# Altium schematic symbol library Custom1.SchLib: 476 symbols (part 10 of 16)
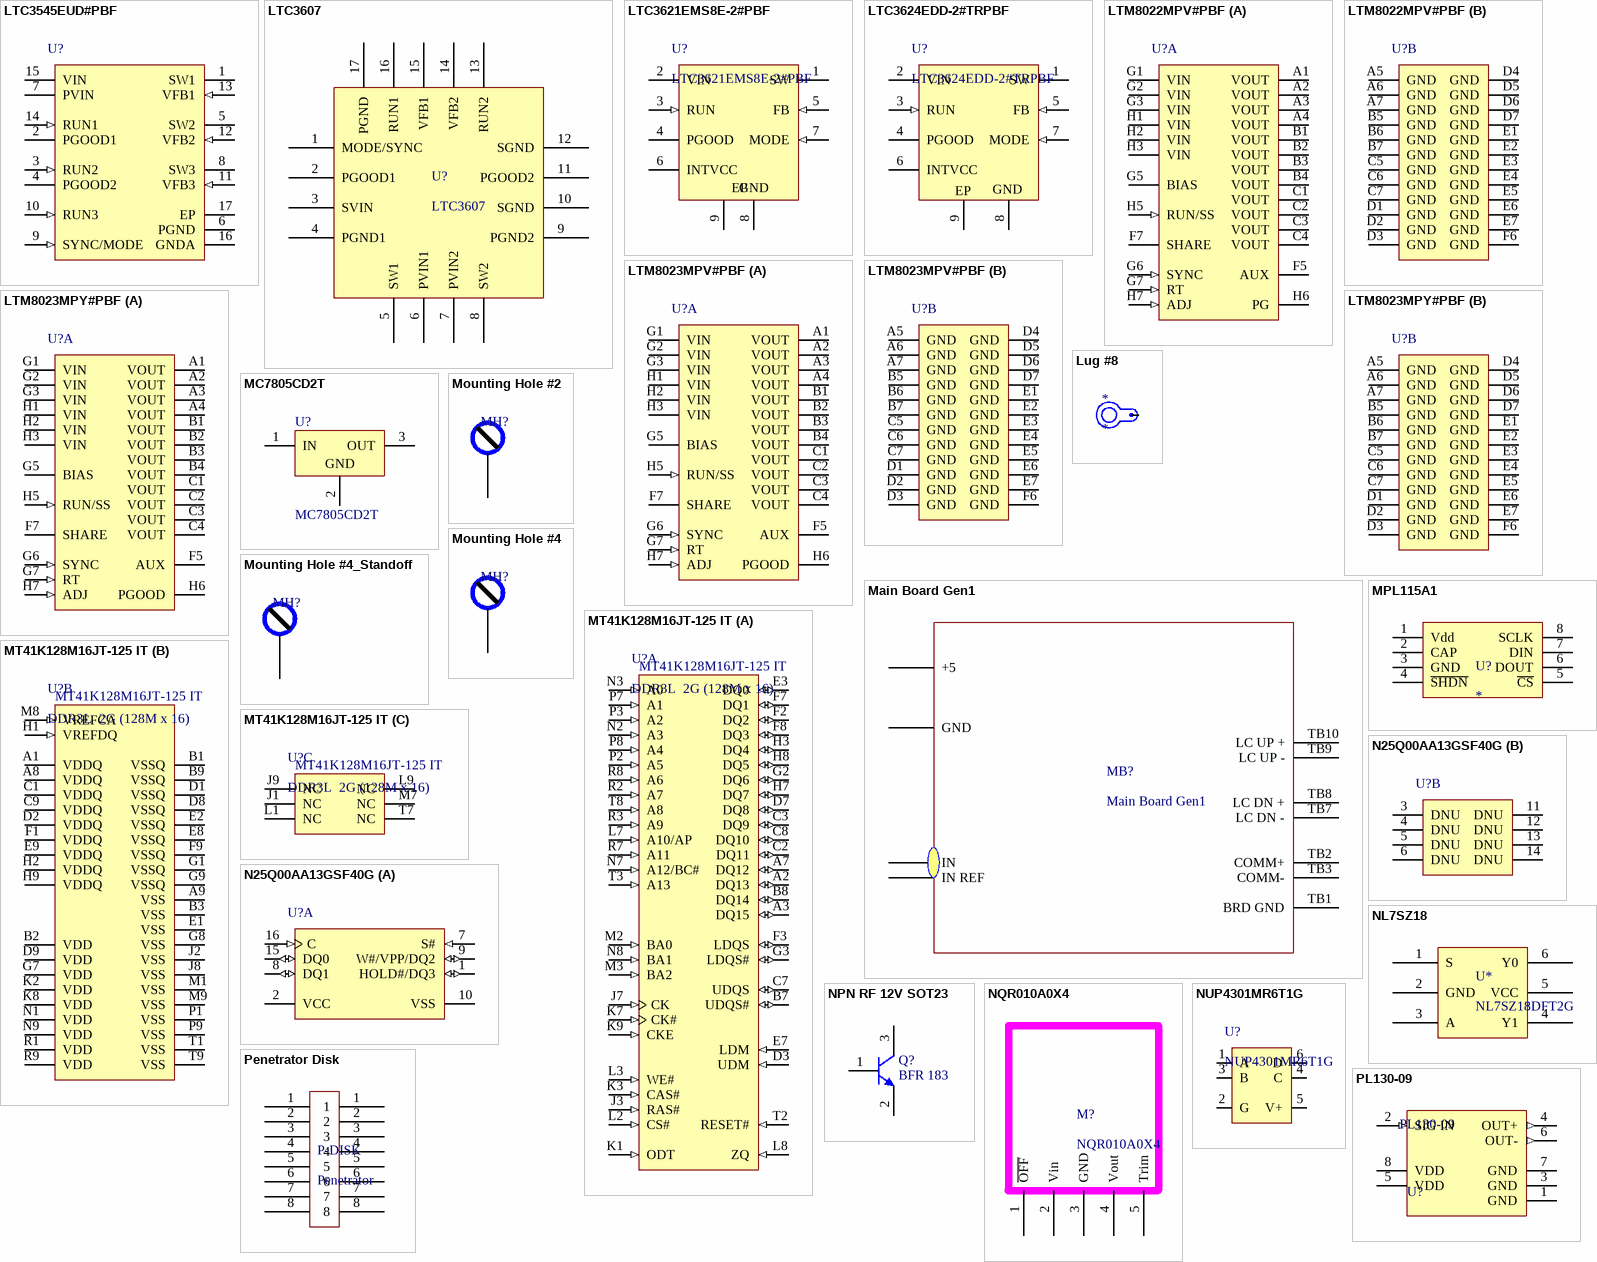
[diagram p34: symbols LTC3545EUD#PBF to PL130-09]

## LTM8023MPV#PBF
designator U?
2 A, 36 V DC/DC Step-Down uModule Regulator, 50-pin LGA, -55 to 125 degC, Pb-Free, Tray; Manufacturer: Linear Technology; PartNumber: LTM8023MPV#PBF; Extended Temp: E, MP; Frequency Adjust Range: 200kHz - 2.4MHz; Frequency Sync Range: 250kHz - 2MHz; Frequency(kHz): 2400; Ishutdown(uA): 0.1; Isupply(mA): 0.085; Number of Outputs: 1; Output Current(A): 2; Switch Current(A): 2.7; Synchronous: no; Topology: Buck; Vin Max(V): 36; Vin Min(V): 3.6; Vout Max(V): 10; Vout Min(V): 0.8; DatasheetVersion: Rev. G; PackageVersion: Rev. C, 02/2013; PackageReference: LGA-50; PackageDescription: 50-Pin LGA, Body 11.25 x 9 mm, Pitch 1.27 mm; Supplier 1: Digi-Key; Supplier Part Number 1: LTM8023MPV#PBF-ND; Supplier 2: Farnell; Supplier Part Number 2: 1799827; Supplier 3: Newark; Supplier Part Number 3: 19P9346; Packing: Tray; RoHS: TRUE; Tracking: no; Mounting Technology: Surface Mount; Code_JEDEC: MO-222; ComponentLink1Description: Manufacturer URL; ComponentLink1URL: http://www.linear.com/; ComponentLink2Description: Datasheet; ComponentLink2URL: http://cds.linear.com/docs/en/datasheet/8023fg.pdf; ComponentLink3Description: Package Specification; ComponentLink3URL: http://cds.linear.com/docs/en/packaging/05081804_C_lga50.pdf
footprint LT-LGA-50-05-08-1804_V (LGA, 50-Leads, Body 11.25x9mm, Pitch 1.27mm)
part A pins: A1 VOUT (power) "Power Output Pins. Apply the output filter capacitor and the output load between these pins and GND pins.", A2 VOUT (power) "Power Output Pins. Apply the output filter capacitor and the output load between these pins and GND pins.", A3 VOUT (power) "Power Output Pins. Apply the output filter capacitor and the output load between these pins and GND pins.", A4 VOUT (power) "Power Output Pins. Apply the output filter capacitor and the output load between these pins and GND pins.", B1 VOUT (power) "Power Output Pins. Apply the output filter capacitor and the output load between these pins and GND pins.", B2 VOUT (power) "Power Output Pins. Apply the output filter capacitor and the output load between these pins and GND pins.", B3 VOUT (power) "Power Output Pins. Apply the output filter capacitor and the output load between these pins and GND pins.", B4 VOUT (power) "Power Output Pins. Apply the output filter capacitor and the output load between these pins and GND pins.", C1 VOUT (power) "Power Output Pins. Apply the output filter capacitor and the output load between these pins and GND pins.", C2 VOUT (power) "Power Output Pins. Apply the output filter capacitor and the output load between these pins and GND pins.", C3 VOUT (power) "Power Output Pins. Apply the output filter capacitor and the output load between these pins and GND pins.", C4 VOUT (power) "Power Output Pins. Apply the output filter capacitor and the output load between these pins and GND pins.", F5 AUX (power) "Low Current Voltage Source for BIAS. The VAUX pin is internally connected to VOUT and is placed adjacent to the BIAS pin to ease printed circuit board routing. Although this pin is internally connected to VOUT, do NOT (See Datasheet)", F7 SHARE "Tie this to the SHARE pin of another LTM8023 when paralleling the outputs. Otherwise, do not connect (leave floating).", G1 VIN (power) "The VIN pin supplies current to the LTM8023’s internal regulator and to the internal power switch. This pin must be locally bypassed with an external, low ESR capacitor of at least 2.2uF.", G2 VIN (power) "The VIN pin supplies current to the LTM8023’s internal regulator and to the internal power switch. This pin must be locally bypassed with an external, low ESR capacitor of at least 2.2uF.", G3 VIN (power) "The VIN pin supplies current to the LTM8023’s internal regulator and to the internal power switch. This pin must be locally bypassed with an external, low ESR capacitor of at least 2.2uF.", G5 BIAS (power) "The BIAS pin connects to the internal power bus. Connect to a power source greater than 2.8V. If the output is greater than 2.8V, connect this pin there. If the output voltage is less, connect this to a voltage source (See Datasheet)", G6 SYNC (in) "This is the external clock synchronization input. Ground this pin for low ripple Burst Mode(R) operation at low output loads.", G7 RT (in) "The RT pin is used to program the switching frequency of the LTM8023 by connecting a resistor from this pin to ground.", H1 VIN (power) "The VIN pin supplies current to the LTM8023’s internal regulator and to the internal power switch. This pin must be locally bypassed with an external, low ESR capacitor of at least 2.2uF.", H2 VIN (power) "The VIN pin supplies current to the LTM8023’s internal regulator and to the internal power switch. This pin must be locally bypassed with an external, low ESR capacitor of at least 2.2uF.", H3 VIN (power) "The VIN pin supplies current to the LTM8023’s internal regulator and to the internal power switch. This pin must be locally bypassed with an external, low ESR capacitor of at least 2.2uF.", H5 RUN/SS (in) "Tie RUN/SS pin to ground to shut down the LTM8023. Tie to 2.5V or more for normal operation. If the shutdown feature is not used, tie this pin to the VIN pin. RUN/SS also provides a soft-start function; see the Applications (See Datasheet)", H6 PGOOD (oc) "The PGOOD pin is the open-collector output of an internal comparator. PG remains low until the ADJ pin is within 10% of the fi nal regulation voltage. PG output is valid when VIN is above 3.6V and RUN/SS is high. If this (See Datasheet)", H7 ADJ (in) "The LTM8023 regulates its ADJ pin to 0.79V. Connect the adjust resistor from this pin to ground."
part B pins: A5 GND (power) "Tie these GND pins to a local ground plane below the LTM8023 and the circuit components", A6 GND (power) "Tie these GND pins to a local ground plane below the LTM8023 and the circuit components", A7 GND (power) "Tie these GND pins to a local ground plane below the LTM8023 and the circuit components", B5 GND (power) "Tie these GND pins to a local ground plane below the LTM8023 and the circuit components", B6 GND (power) "Tie these GND pins to a local ground plane below the LTM8023 and the circuit components", B7 GND (power) "Tie these GND pins to a local ground plane below the LTM8023 and the circuit components", C5 GND (power) "Tie these GND pins to a local ground plane below the LTM8023 and the circuit components", C6 GND (power) "Tie these GND pins to a local ground plane below the LTM8023 and the circuit components", C7 GND (power) "Tie these GND pins to a local ground plane below the LTM8023 and the circuit components", D1 GND (power) "Tie these GND pins to a local ground plane below the LTM8023 and the circuit components", D2 GND (power) "Tie these GND pins to a local ground plane below the LTM8023 and the circuit components", D3 GND (power) "Tie these GND pins to a local ground plane below the LTM8023 and the circuit components", D4 GND (power) "Tie these GND pins to a local ground plane below the LTM8023 and the circuit components", D5 GND (power) "Tie these GND pins to a local ground plane below the LTM8023 and the circuit components", D6 GND (power) "Tie these GND pins to a local ground plane below the LTM8023 and the circuit components", D7 GND (power) "Tie these GND pins to a local ground plane below the LTM8023 and the circuit components", E1 GND (power) "Tie these GND pins to a local ground plane below the LTM8023 and the circuit components", E2 GND (power) "Tie these GND pins to a local ground plane below the LTM8023 and the circuit components", E3 GND (power) "Tie these GND pins to a local ground plane below the LTM8023 and the circuit components", E4 GND (power) "Tie these GND pins to a local ground plane below the LTM8023 and the circuit components", E5 GND (power) "Tie these GND pins to a local ground plane below the LTM8023 and the circuit components", E6 GND (power) "Tie these GND pins to a local ground plane below the LTM8023 and the circuit components", E7 GND (power) "Tie these GND pins to a local ground plane below the LTM8023 and the circuit components", F6 GND (power) "Tie these GND pins to a local ground plane below the LTM8023 and the circuit components"

## LTM8023MPY#PBF
designator U?
2 A, 36 V DC/DC Step-Down uModule Regulator, 50-pin BGA, -55 to 125 degC, Pb-Free, Tray; Manufacturer: Linear Technology; PartNumber: LTM8023MPY#PBF; Extended Temp: E, MP; Frequency Adjust Range: 200kHz - 2.4MHz; Frequency Sync Range: 250kHz - 2MHz; Frequency(kHz): 2400; Ishutdown(uA): 0.1; Isupply(mA): 0.085; Number of Outputs: 1; Output Current(A): 2; Switch Current(A): 2.7; Synchronous: no; Topology: Buck; Vin Max(V): 36; Vin Min(V): 3.6; Vout Max(V): 10; Vout Min(V): 0.8; DatasheetVersion: Rev. G; PackageVersion: Rev. A, 01/2013; PackageReference: BGA-50; PackageDescription: 50-Ball BGA, Body 11.25 x 9 mm, Pitch 1.27 mm; Supplier 1: Digi-Key; Supplier Part Number 1: LTM8023MPY#PBF-ND; Supplier 2: Farnell; Supplier Part Number 2: 2068083; Supplier 3: Newark; Supplier Part Number 3: 78T3668; Packing: Tray; RoHS: TRUE; Tracking: no; Mounting Technology: Surface Mount; Code_JEDEC: MS-028; ComponentLink1Description: Manufacturer URL; ComponentLink1URL: http://www.linear.com/; ComponentLink2Description: Datasheet; ComponentLink2URL: http://cds.linear.com/docs/en/datasheet/8023fg.pdf; ComponentLink3Description: Package Specification; ComponentLink3URL: http://cds.linear.com/docs/en/packaging/05081883_A_bga50.pdf
footprint LT-BGA-50-11250X9000X3420 (BGA, 50-Balls, Body 11.25x9mm, Pitch 1.27mm)
part A pins: A1 VOUT (power) "Power Output Pins. Apply the output filter capacitor and the output load between these pins and GND pins.", A2 VOUT (power) "Power Output Pins. Apply the output filter capacitor and the output load between these pins and GND pins.", A3 VOUT (power) "Power Output Pins. Apply the output filter capacitor and the output load between these pins and GND pins.", A4 VOUT (power) "Power Output Pins. Apply the output filter capacitor and the output load between these pins and GND pins.", B1 VOUT (power) "Power Output Pins. Apply the output filter capacitor and the output load between these pins and GND pins.", B2 VOUT (power) "Power Output Pins. Apply the output filter capacitor and the output load between these pins and GND pins.", B3 VOUT (power) "Power Output Pins. Apply the output filter capacitor and the output load between these pins and GND pins.", B4 VOUT (power) "Power Output Pins. Apply the output filter capacitor and the output load between these pins and GND pins.", C1 VOUT (power) "Power Output Pins. Apply the output filter capacitor and the output load between these pins and GND pins.", C2 VOUT (power) "Power Output Pins. Apply the output filter capacitor and the output load between these pins and GND pins.", C3 VOUT (power) "Power Output Pins. Apply the output filter capacitor and the output load between these pins and GND pins.", C4 VOUT (power) "Power Output Pins. Apply the output filter capacitor and the output load between these pins and GND pins.", F5 AUX (power) "Low Current Voltage Source for BIAS. The VAUX pin is internally connected to VOUT and is placed adjacent to the BIAS pin to ease printed circuit board routing. Although this pin is internally connected to VOUT, do NOT (See Datasheet)", F7 SHARE "Tie this to the SHARE pin of another LTM8023 when paralleling the outputs. Otherwise, do not connect (leave floating).", G1 VIN (power) "The VIN pin supplies current to the LTM8023’s internal regulator and to the internal power switch. This pin must be locally bypassed with an external, low ESR capacitor of at least 2.2uF.", G2 VIN (power) "The VIN pin supplies current to the LTM8023’s internal regulator and to the internal power switch. This pin must be locally bypassed with an external, low ESR capacitor of at least 2.2uF.", G3 VIN (power) "The VIN pin supplies current to the LTM8023’s internal regulator and to the internal power switch. This pin must be locally bypassed with an external, low ESR capacitor of at least 2.2uF.", G5 BIAS (power) "The BIAS pin connects to the internal power bus. Connect to a power source greater than 2.8V. If the output is greater than 2.8V, connect this pin there. If the output voltage is less, connect this to a voltage source (See Datasheet)", G6 SYNC (in) "This is the external clock synchronization input. Ground this pin for low ripple Burst Mode operation at low output loads.", G7 RT (in) "The RT pin is used to program the switching frequency of the LTM8023 by connecting a resistor from this pin to ground.", H1 VIN (power) "The VIN pin supplies current to the LTM8023’s internal regulator and to the internal power switch. This pin must be locally bypassed with an external, low ESR capacitor of at least 2.2uF.", H2 VIN (power) "The VIN pin supplies current to the LTM8023’s internal regulator and to the internal power switch. This pin must be locally bypassed with an external, low ESR capacitor of at least 2.2uF.", H3 VIN (power) "The VIN pin supplies current to the LTM8023’s internal regulator and to the internal power switch. This pin must be locally bypassed with an external, low ESR capacitor of at least 2.2uF.", H5 RUN/SS (in) "Tie RUN/SS pin to ground to shut down the LTM8023. Tie to 2.5V or more for normal operation. If the shutdown feature is not used, tie this pin to the VIN pin. RUN/SS also provides a soft-start function; see the Applications (See Datasheet)", H6 PGOOD (oc) "The PGOOD pin is the open-collector output of an internal comparator. PG remains low until the ADJ pin is within 10% of the fi nal regulation voltage. PG output is valid when VIN is above 3.6V and RUN/SS is high. If this (See Datasheet)", H7 ADJ (in) "The LTM8023 regulates its ADJ pin to 0.79V. Connect the adjust resistor from this pin to ground."
part B pins: A5 GND (power) "Tie these GND pins to a local ground plane below the LTM8023 and the circuit components", A6 GND (power) "Tie these GND pins to a local ground plane below the LTM8023 and the circuit components", A7 GND (power) "Tie these GND pins to a local ground plane below the LTM8023 and the circuit components", B5 GND (power) "Tie these GND pins to a local ground plane below the LTM8023 and the circuit components", B6 GND (power) "Tie these GND pins to a local ground plane below the LTM8023 and the circuit components", B7 GND (power) "Tie these GND pins to a local ground plane below the LTM8023 and the circuit components", C5 GND (power) "Tie these GND pins to a local ground plane below the LTM8023 and the circuit components", C6 GND (power) "Tie these GND pins to a local ground plane below the LTM8023 and the circuit components", C7 GND (power) "Tie these GND pins to a local ground plane below the LTM8023 and the circuit components", D1 GND (power) "Tie these GND pins to a local ground plane below the LTM8023 and the circuit components", D2 GND (power) "Tie these GND pins to a local ground plane below the LTM8023 and the circuit components", D3 GND (power) "Tie these GND pins to a local ground plane below the LTM8023 and the circuit components", D4 GND (power) "Tie these GND pins to a local ground plane below the LTM8023 and the circuit components", D5 GND (power) "Tie these GND pins to a local ground plane below the LTM8023 and the circuit components", D6 GND (power) "Tie these GND pins to a local ground plane below the LTM8023 and the circuit components", D7 GND (power) "Tie these GND pins to a local ground plane below the LTM8023 and the circuit components", E1 GND (power) "Tie these GND pins to a local ground plane below the LTM8023 and the circuit components", E2 GND (power) "Tie these GND pins to a local ground plane below the LTM8023 and the circuit components", E3 GND (power) "Tie these GND pins to a local ground plane below the LTM8023 and the circuit components", E4 GND (power) "Tie these GND pins to a local ground plane below the LTM8023 and the circuit components", E5 GND (power) "Tie these GND pins to a local ground plane below the LTM8023 and the circuit components", E6 GND (power) "Tie these GND pins to a local ground plane below the LTM8023 and the circuit components", E7 GND (power) "Tie these GND pins to a local ground plane below the LTM8023 and the circuit components", F6 GND (power) "Tie these GND pins to a local ground plane below the LTM8023 and the circuit components"

## Lug #8
designator *
pins: 1

## Main Board Gen1
designator MB?
ComponentLink1URL: https://drive.google.com/file/d/0Bxm9S-Ib8bhxU2tiSVYzTFotU1E/view?usp=sharing; ComponentLink1Description: Schematic Gen1 Mainboard
pins: ?1 IN, ?2 IN REF, ?3 +5, ?4 GND, TB1 BRD GND, TB2 COMM+, TB3 COMM-, TB7 LC DN -, TB8 LC DN +, TB9 LC UP -, TB10 LC UP +

## MC7805CD2T
designator U?
Three-Terminal Positive Voltage Regulator; Manufacturer: ON Semiconductor; Manufacturer Part Number: MC7805BD2TR4G; Note: Pin 2 is electrically connected to Pin 4; Pin 2 is trimmed and not drawn;; Regulator Topology: Positive Fixed; Voltage - Output: 5V; Current - Output: 1A; Voltage - Dropout (Typical): 2V @ 1A; Number of Regulators: 1; Voltage - Input: Up to 35V; Published: 15-Apr-2002; DatasheetVersion: 1997; PackageVersion: 1997; PackageReference: 936-03; Publisher: Altium Limited; PackageDescription: D2-PAK/TO-263-AB; 3 Leads (1 Cropped); Body 14.7 (inc. leads) x 10.2 mm (LxW max); ComponentLink1Description: Manufacturer Link; ComponentLink1URL: http://www.onsemi.com/site/products/taxonomy/0,4438,503,00.html; ComponentLink2Description: Datasheet; ComponentLink2URL: http://www.onsemi.com/pub/Collateral/MC7800-D.PDF; Supplier 1: Digi-Key; RoHS: RoHS Compliant; Category: Integrated Circuits (ICs); Stock 1: 60250; Pricing 1: 1=0.95, 10=0.83, 25=0.7336, 100=0.6394, 250=0.5566 (USD); Packaging: Cut Tape (CT); Current - Limit (Min): -; Operating Temperature: -40°C ~ 125°C; Mounting Type: Surface Mount; Package / Case: TO-263-3, D²Pak (2 Leads + Tab), TO-263AB; Supplier Device Package: D2PAK; ComponentLink3URL: http://www.onsemi.com/pub_link/Collateral/MC7800-D.PDF; ComponentLink3Description: http://www.onsemi.com/pub_link/Collateral/MC7800-D.PDF; Supplier Part Number 1: MC7805BD2TR4GOSCT-ND
footprint TO-263-2 (SOT23, 5-Leads, Body 2.9x1.6mm, Pitch 0.95mm, IPC Medium Density)
pins: 1 IN (power), 2 GND (power), 3 OUT (power)

## Mounting Hole #2
designator MH?, comment Mounting Hole  (value not drawn)  (no BOM)
footprint Mounting Pad #2 - Nut Clearance
pins: 0

## Mounting Hole #4
designator MH?, comment Mounting Hole  (value not drawn)  (no BOM)
footprint Mounting Pad #4
pins: 0

## Mounting Hole #4_Standoff
designator MH?, comment Mounting Hole  (value not drawn)  (no BOM)
footprint Mounting Pad #4 - Standoff
pins: 0

## MPL115A1
designator U?
Barometer; Manufacturer: Freescale Semiconductor; Manufacturer Part Number: MPL115A1; Pressure Type: Absolute; Operating Pressure: 7.2 PSI ~ 16.6 PSI, 50 ~ 115 kPa; Output: SPI; Accuracy: ±1kPa; Voltage - Supply: 2.375 V ~ 5.5 V; Supplier 1: Digi-Key; Supplier Part Number 1: MPL115A1-ND; RoHS: RoHS Compliant; Category: Sensors, Transducers; Stock: 902; Pricing: 1=4.76, 10=4.25, 25=3.8252, 100=3.485 (USD); Port Size: -; Termination Style: PCB; Operating Temperature: -40°C ~ 105°C; Package / Case: 8-TLGA; Factory Setting: -; ComponentLink1URL: http://www.freescale.com/files/sensors/doc/data_sheet/MPL115A1.pdf; ComponentLink1Description: http://www.freescale.com/files/sensors/doc/data_sheet/MPL115A1.pdf
footprint Baro-SPI
pins: 1 Vdd, 2 CAP, 3 GND, 4 ~{SHDN}, 5 ~{CS}, 6 DOUT, 7 DIN, 8 SCLK

## MT41K128M16JT-125 IT
designator U?, comment DDR3L  2G (128M x 16)  PartNumber: MT41K128M16JT-125 IT
2Gb DDR3-1600 SDRAM, 128Mb x 16, 1.25ns, 1.35V, -40 to 95 degC, 96-Ball FBGA, Pb-Free; Manufacturer: Micron; Manufacturer Part Number: MT41K128M16JT-125 AIT:K; CL: CL = 11; Clock Rate: 800 MHz; Op. Temp.: -40C to +95C; Format - Memory: RAM; Memory Type: DDR3L SDRAM; Interface: Parallel; ID: 14762670; DatasheetVersion: Rev.G; PackageVersion: Rev.G; PackageReference: MICT-JT-96; PackageDescription: 96-Ball Fine-Pitch Ball Grid Array, 14 x 8 mm, Pitch 0.8 mm; Cycle Time: 1.25ns; Data Rate: DDR3-1600; Density: 2Gb; Depth: 128Mb; Package: FBGA; Mounting Technology: Surface Mount; ComponentLink1Description: Manufacturer URL; ComponentLink1URL: http://www.micron.com/; ComponentLink2Description: Datasheet; ComponentLink2URL: http://www.micron.com/~/media/documents/products/data-sheet/dram/ddr3/2gb_1_35v_ddr3l.pdf; ComponentLink3Description: Package Specification; ComponentLink3URL: http://www.micron.com/~/media/Documents/Products/Data%20Sheet/DRAM/2Gb_DDR3_SDRAM.pdf; Category: Integrated Circuits (ICs); Packaging: Tray; Memory Size: 2G (128M x 16); Operating Temperature: -40°C ~ 95°C; Package / Case: 96-TFBGA; ComponentLink4URL: http://www.micron.com/~/media/documents/products/data-sheet/dram/ddr3/2gb_1_35v_ddr3l.pdf; ComponentLink4Description: http://www.micron.com/~/media/documents/products/data-sheet/dram/ddr3/2gb_1_35v_ddr3l.pdf; Supplier 1: Arrow; RoHS: : Compliant / : Compliant; Stock 1: 63; Pricing 1: 1=7.544, 10=6.651, 25=6.049, 50=5.961, 100=5.64 (USD); Package Quantity: 1; ComponentLink5URL: https://www.arrow.com/en/products/mt41k128m16jt-125aitk/micron-technology/; ComponentLink5Description: https://www.arrow.com/en/products/mt41k128m16jt-125aitk/micron-technology/; Supplier Part Number 1: MT41K128M16JT-125 AIT:K
footprint MICT-JT-96 (BGA, 96-Balls, Body 14x8mm, Pitch 0.8mm)
part A pins: A2 DQ13 (io) "Data input/output: Upper byte of bidirectional data bus for the x16 configuration. DQ[15:8] are referenced to VREFDQ.", A3 DQ15 (io) "Data input/output: Upper byte of bidirectional data bus for the x16 configuration. DQ[15:8] are referenced to VREFDQ.", A7 DQ12 (io) "Data input/output: Upper byte of bidirectional data bus for the x16 configuration. DQ[15:8] are referenced to VREFDQ.", B7 UDQS# (io) "Upper byte data strobe: Output with read data. Edge-aligned with read data. Input with write data. UDQS is center-aligned to write data.", B8 DQ14 (io) "Data input/output: Upper byte of bidirectional data bus for the x16 configuration. DQ[15:8] are referenced to VREFDQ.", C2 DQ11 (io) "Data input/output: Upper byte of bidirectional data bus for the x16 configuration. DQ[15:8] are referenced to VREFDQ.", C3 DQ9 (io) "Data input/output: Upper byte of bidirectional data bus for the x16 configuration. DQ[15:8] are referenced to VREFDQ.", C7 UDQS (io) "Upper byte data strobe: Output with read data. Edge-aligned with read data. Input with write data. UDQS is center-aligned to write data.", C8 DQ10 (io) "Data input/output: Upper byte of bidirectional data bus for the x16 configuration. DQ[15:8] are referenced to VREFDQ.", D3 UDM (in) "Input data mask: UDM is an upper-byte, input mask signal for write data. Upper-byte input data is masked when UDM is sampled HIGH along with the input data during a write access. Although the UDM ball is input-only, the UDM (See Datasheet)", D7 DQ8 (io) "Data input/output: Upper byte of bidirectional data bus for the x16 configuration. DQ[15:8] are referenced to VREFDQ.", E3 DQ0 (io) "Data input/output: Lower byte of bidirectional data bus for the x16 configuration. DQ[7:0] are referenced to VREFDQ.", E7 LDM (in) "Input data mask: LDM is a lower-byte, input mask signal for write data. Lower-byte input data is masked when LDM is sampled HIGH along with the input data during a write access. Although the LDM ball is input-only, the LDM (See Datasheet)", F2 DQ2 (io) "Data input/output: Lower byte of bidirectional data bus for the x16 configuration. DQ[7:0] are referenced to VREFDQ.", F3 LDQS (io) "Lower byte data strobe: Output with read data. Edge-aligned with read data. Input with write data. LDQS is center-aligned to write data.", F7 DQ1 (io) "Data input/output: Lower byte of bidirectional data bus for the x16 configuration. DQ[7:0] are referenced to VREFDQ.", F8 DQ3 (io) "Data input/output: Lower byte of bidirectional data bus for the x16 configuration. DQ[7:0] are referenced to VREFDQ.", G2 DQ6 (io) "Data input/output: Lower byte of bidirectional data bus for the x16 configuration. DQ[7:0] are referenced to VREFDQ.", G3 LDQS# (io) "Lower byte data strobe: Output with read data. Edge-aligned with read data. Input with write data. LDQS is center-aligned to write data.", H3 DQ4 (io) "Data input/output: Lower byte of bidirectional data bus for the x16 configuration. DQ[7:0] are referenced to VREFDQ.", H7 DQ7 (io) "Data input/output: Lower byte of bidirectional data bus for the x16 configuration. DQ[7:0] are referenced to VREFDQ.", H8 DQ5 (io) "Data input/output: Lower byte of bidirectional data bus for the x16 configuration. DQ[7:0] are referenced to VREFDQ.", J3 RAS# (in) "Command inputs: RAS#, CAS#, and WE# (along with CS#) define the command being entered and are referenced to VREFCA.", J7 CK (in) "Clock: CK and CK# are differential clock inputs. All address and control input signals are sampled on the crossing of the positive edge of CK and the negative edge of CK#. Output data strobe (DQS, DQS#) is referenced to the (See Datasheet)", K1 ODT (in) "On-die termination: ODT enables (registered HIGH) and disables (registered LOW) termination resistance internal to the DDR3 SDRAM. When enabled in normal operation,ODT is only applied to each of the following balls: (See Datasheet)", K3 CAS# (in) "Command inputs: RAS#, CAS#, and WE# (along with CS#) define the command being entered and are referenced to VREFCA.", K7 CK# (in) "Clock: CK and CK# are differential clock inputs. All address and control input signals are sampled on the crossing of the positive edge of CK and the negative edge of CK#. Output data strobe (LDQS,L DQS#,UDQS,UDQS#) is (See Datasheet)", K9 CKE (in) "Clock enable: CKE enables (registered HIGH) and disables (registered LOW) internal circuitry and clocks on the DRAM. The specific circuitry that is enabled/disabled is dependent upon the DDR3 SDRAM configuration and (See Datasheet)", L2 CS# (in) "Chip select: CS# enables (registered LOW) and disables (registered HIGH) the command decoder. All commands are masked when CS# is registered HIGH. CS# provides for external rank selection on systems with multiple ranks. CS# (See Datasheet)", L3 WE# (in) "Command inputs: RAS#, CAS#, and WE# (along with CS#) define the command being entered and are referenced to VREFCA.", L7 A10/AP (in) "Address inputs: Provide the row address for ACTIVATE commands, and the column address and auto precharge bit (A10) for READ/WRITE commands, to select one location out of the memory array in the respective bank. A10 sampled (See Datasheet)", L8 ZQ (in) "External reference ball for output drive calibration: This ball is tied to an external 240ohm resistor (RZQ), which is tied to VSSQ.", M2 BA0 (in) "Bank address inputs: BA[2:0] define the bank to which an ACTIVATE, READ, WRITE, or PRECHARGE command is being applied. BA[2:0] define which mode register (MR0, MR1, MR2, or MR3) is loaded during the LOAD MODE command. (See Datasheet)", M3 BA2 (in) "Bank address inputs: BA[2:0] define the bank to which an ACTIVATE, READ, WRITE, or PRECHARGE command is being applied. BA[2:0] define which mode register (MR0, MR1, MR2, or MR3) is loaded during the LOAD MODE command. (See Datasheet)", N2 A3 (in) "Address inputs: Provide the row address for ACTIVATE commands, and the column address and auto precharge bit (A10) for READ/WRITE commands, to select one location out of the memory array in the respective bank. A10 sampled (See Datasheet)", N3 A0 (in) "Address inputs: Provide the row address for ACTIVATE commands, and the column address and auto precharge bit (A10) for READ/WRITE commands, to select one location out of the memory array in the respective bank. A10 sampled (See Datasheet)", N7 A12/BC# (in) "Address inputs: Provide the row address for ACTIVATE commands, and the column address and auto precharge bit (A10) for READ/WRITE commands, to select one location out of the memory array in the respective bank. A10 sampled (See Datasheet)", N8 BA1 (in) "Bank address inputs: BA[2:0] define the bank to which an ACTIVATE, READ, WRITE, or PRECHARGE command is being applied. BA[2:0] define which mode register (MR0, MR1, MR2, or MR3) is loaded during the LOAD MODE command. (See Datasheet)", P2 A5 (in) "Address inputs: Provide the row address for ACTIVATE commands, and the column address and auto precharge bit (A10) for READ/WRITE commands, to select one location out of the memory array in the respective bank. A10 sampled (See Datasheet)", P3 A2 (in) "Address inputs: Provide the row address for ACTIVATE commands, and the column address and auto precharge bit (A10) for READ/WRITE commands, to select one location out of the memory array in the respective bank. A10 sampled (See Datasheet)", P7 A1 (in) "Address inputs: Provide the row address for ACTIVATE commands, and the column address and auto precharge bit (A10) for READ/WRITE commands, to select one location out of the memory array in the respective bank. A10 sampled (See Datasheet)", P8 A4 (in) "Address inputs: Provide the row address for ACTIVATE commands, and the column address and auto precharge bit (A10) for READ/WRITE commands, to select one location out of the memory array in the respective bank. A10 sampled (See Datasheet)", R2 A7 (in) "Address inputs: Provide the row address for ACTIVATE commands, and the column address and auto precharge bit (A10) for READ/WRITE commands, to select one location out of the memory array in the respective bank. A10 sampled (See Datasheet)", R3 A9 (in) "Address inputs: Provide the row address for ACTIVATE commands, and the column address and auto precharge bit (A10) for READ/WRITE commands, to select one location out of the memory array in the respective bank. A10 sampled (See Datasheet)", R7 A11 (in) "Address inputs: Provide the row address for ACTIVATE commands, and the column address and auto precharge bit (A10) for READ/WRITE commands, to select one location out of the memory array in the respective bank. A10 sampled (See Datasheet)", R8 A6 (in) "Address inputs: Provide the row address for ACTIVATE commands, and the column address and auto precharge bit (A10) for READ/WRITE commands, to select one location out of the memory array in the respective bank. A10 sampled (See Datasheet)", T2 RESET# (in) "Reset: RESET# is an active LOW CMOS input referenced to VSS. The RESET# input receiver is a CMOS input defined as a rail-to-rail signal with DC HIGH >= 0.8 x VDDQ and DC LOW =< 0.2 x VDDQ. RESET# assertion and deassertion (See Datasheet)", T3 A13 (in) "Address inputs: Provide the row address for ACTIVATE commands, and the column address and auto precharge bit (A10) for READ/WRITE commands, to select one location out of the memory array in the respective bank. A10 sampled (See Datasheet)", T8 A8 (in) "Address inputs: Provide the row address for ACTIVATE commands, and the column address and auto precharge bit (A10) for READ/WRITE commands, to select one location out of the memory array in the respective bank. A10 sampled (See Datasheet)"
part B pins: A1 VDDQ (power) "DQ power supply: 1.35V, 1.283-1.45V operational; compatible with 1.5V operation.", A8 VDDQ (power) "DQ power supply: 1.35V, 1.283-1.45V operational; compatible with 1.5V operation.", A9 VSS (power) "Ground.", B1 VSSQ (power) "DQ ground: Isolated on the device for improved noise immunity.", B2 VDD (power) "Power supply: 1.35V, 1.283-1.45V operational; compatible to 1.5V operation.", B3 VSS (power) "Ground.", B9 VSSQ (power) "DQ ground: Isolated on the device for improved noise immunity.", C1 VDDQ (power) "DQ power supply: 1.35V, 1.283-1.45V operational; compatible with 1.5V operation.", C9 VDDQ (power) "DQ power supply: 1.35V, 1.283-1.45V operational; compatible with 1.5V operation.", D1 VSSQ (power) "DQ ground: Isolated on the device for improved noise immunity.", D2 VDDQ (power) "DQ power supply: 1.35V, 1.283-1.45V operational; compatible with 1.5V operation.", D8 VSSQ (power) "DQ ground: Isolated on the device for improved noise immunity.", D9 VDD (power) "Power supply: 1.35V, 1.283-1.45V operational; compatible to 1.5V operation.", E1 VSS (power) "Ground.", E2 VSSQ (power) "DQ ground: Isolated on the device for improved noise immunity.", E8 VSSQ (power) "DQ ground: Isolated on the device for improved noise immunity.", E9 VDDQ (power) "DQ power supply: 1.35V, 1.283-1.45V operational; compatible with 1.5V operation.", F1 VDDQ (power) "DQ power supply: 1.35V, 1.283-1.45V operational; compatible with 1.5V operation.", F9 VSSQ (power) "DQ ground: Isolated on the device for improved noise immunity.", G1 VSSQ (power) "DQ ground: Isolated on the device for improved noise immunity.", G7 VDD (power) "Power supply: 1.35V, 1.283-1.45V operational; compatible to 1.5V operation.", G8 VSS (power) "Ground.", G9 VSSQ (power) "DQ ground: Isolated on the device for improved noise immunity.", H1 VREFDQ (in) "Reference voltage for data: VREFDQ must be maintained at all times (including self refresh) for proper device operation.", H2 VDDQ (power) "DQ power supply: 1.35V, 1.283-1.45V operational; compatible with 1.5V operation.", H9 VDDQ (power) "DQ power supply: 1.35V, 1.283-1.45V operational; compatible with 1.5V operation.", J2 VSS (power) "Ground.", J8 VSS (power) "Ground.", K2 VDD (power) "Power supply: 1.35V, 1.283-1.45V operational; compatible to 1.5V operation.", K8 VDD (power) "Power supply: 1.35V, 1.283-1.45V operational; compatible to 1.5V operation.", M1 VSS (power) "Ground.", M8 VREFCA (in) "Reference voltage for control, command, and address: VREFCA must be maintained at all times (including self refresh) for proper device operation.", M9 VSS (power) "Ground.", N1 VDD (power) "Power supply: 1.35V, 1.283-1.45V operational; compatible to 1.5V operation.", N9 VDD (power) "Power supply: 1.35V, 1.283-1.45V operational; compatible to 1.5V operation.", P1 VSS (power) "Ground.", P9 VSS (power) "Ground.", R1 VDD (power) "Power supply: 1.35V, 1.283-1.45V operational; compatible to 1.5V operation.", R9 VDD (power) "Power supply: 1.35V, 1.283-1.45V operational; compatible to 1.5V operation.", T1 VSS (power) "Ground.", T9 VSS (power) "Ground."
part C pins: J1 NC "No connect: These balls should be left unconnected (the ball has no connection to the DRAM or to other balls).", J9 NC "No connect: These balls should be left unconnected (the ball has no connection to the DRAM or to other balls).", L1 NC "No connect: These balls should be left unconnected (the ball has no connection to the DRAM or to other balls).", L9 NC "No connect: These balls should be left unconnected (the ball has no connection to the DRAM or to other balls).", M7 NC "No connect: These balls should be left unconnected (the ball has no connection to the DRAM or to other balls).", T7 NC "No connect: These balls should be left unconnected (the ball has no connection to the DRAM or to other balls)."

## N25Q00AA13GSF40G
designator U?
1 Gb (x1/x2/x4) Serial NOR Flash Memory with Multi I/O, 108 MHz, 2.7 to 3.6 V, 16-pin SO16 Wide (SF), Tube; Part Family: N25Q; Manufacturer: Micron; PartNumber: N25Q00AA13GSF40G; Density: 1Gb; Speed: 108 MHz; Voltage: 2.7V-3.6V; Memory Type: FLASH - NOR; Memory Size: 1G (256M x 4); Interface: SPI Serial; Voltage - Supply: 2.7 V ~ 3.6 V; DatasheetVersion: Rev. F; PackageVersion: Rev. F; PackageReference: MICT-SF-16; PackageDescription: 16-Pin SO Wide, 7.5 X 10.3 mm, Pitch 1.27 mm; Applications: Embedded; Package: SO16 Wide; Part Status: Production; RoHS: Yes; Type: Multi I/O; Width: x1/x2/x4; Mounting Technology: Surface Mount; ComponentLink1Description: Manufacturer URL; ComponentLink1URL: http://www.micron.com/; ComponentLink2Description: Datasheet; ComponentLink2URL: http://www.micron.com/parts/nor-flash/serial-nor-flash/n25q00aa13gsf40g; ComponentLink3Description: Package Specification; ComponentLink3URL: http://www.micron.com/~/media/Documents/Products/Data%20Sheet/NOR%20Flash/Serial%20NOR/N25Q/n25q_1gb_3v_65nm.pdf; Supplier 1: Digi-Key; Manufacturer Part Number: N25Q00AA13GSF40G; Category: Integrated Circuits (ICs); Stock 1: 4449; Pricing 1: 1=9.47, 25=8.572, 50=8.525, 100=7.5051, 250=7.13372, 500=7.0605, 1000=6.82515, 2500=6.54273, 5000=6.276 (USD); Packaging: Tube; Format - Memory: FLASH; Operating Temperature: -40°C ~ 85°C; Package / Case: 16-SOIC (0.295", 7.50mm Width); Supplier Device Package: 16-SOP; Supplier Part Number 1: 557-1571-5-ND
footprint MICT-SF-16_N (SOIC, 16-Leads, Body 10.3x7.5mm, Pitch 1.27mm, IPC Medium Density)
part A pins: 1 HOLD#/DQ3 (io) "HOLD: Pauses any serial communications with the device without deselecting the device. DQ1 (output) is High-Z. DQ0 (input) and the clock are "Don't Care." To enable HOLD, the device must be selected with S# driven LOW.HOLD# (See Datasheet)", 2 VCC (power) "Device core power supply: Source voltage.", 7 S# (in) "Chip select: When S# is HIGH, the device is deselected and DQ1 is at High-Z. When in extended SPI mode, with the device deselected, DQ1 is tri-stated. Unless an internal PROGRAM,ERASE, or WRITE STATUS REGISTER cycle is in (See Datasheet)", 8 DQ1 (io) "Serial data:Transfers data serially out of the device. Data is shifted out on the falling edge of the clock. DQ1 is used for input/output during the following operations: DUAL INPUT FAST PROGRAM, QUAD INPUT FAST PROGRAM, (See Datasheet)", 9 W#/VPP/DQ2 (io) "Write protect: W# can be used as a protection control input or in QIO-SPI operations. When in extended SPI with single or dual commands, the WRITE PROTECT function is selectable by the voltage range applied to the signal. If (See Datasheet)", 10 VSS (power) "Ground: Reference for the VCC supply voltage.", 15 DQ0 (io) "Serial data: Transfers data serially into the device. It receives command codes, addresses, and the data to be programmed. Values are latched on the rising edge of the clock. DQ0 is used for input/output during the following (See Datasheet)", 16 C (in) "Clock: Provides the timing of the serial interface. Commands, addresses, or data present at serial data inputs are latched on the rising edge of the clock. Data is shifted out on the falling edge of the clock."
part B pins: 3 DNU "Do not use.", 4 DNU "Do not use.", 5 DNU "Do not use.", 6 DNU "Do not use.", 11 DNU "Do not use.", 12 DNU "Do not use.", 13 DNU "Do not use.", 14 DNU "Do not use."

## NL7SZ18
designator U*, comment NL7SZ18DFT2G
IC DEMUX 1:2 NONINV 3ST SC88; Manufacturer: ON Semiconductor; Number of Inputs: 1; Number of Outputs: 2; Propagation Delay: 12.5ns; Max Supply Voltage: 5.5V; Min Supply Voltage: 1.65V; Logic Function: Demultiplexer; High Level Output Current: -32mA; Low Level Output Current: 32mA; Polarity: Non-Inverting; Quiescent Current: 1uA; Supply Type: Single; Throw Configuration: DPST; Supplier 1: Digi-Key; Manufacturer Part Number: NL7SZ18DFT2G; Stock 1: 3167; Pricing 1: 1=0.45000, 10=0.34000, 100=0.21170, 500=0.14488, 1000=0.11144 (USD); RoHS: Yes; Mount: Surface Mount; Case/Package: SC; Number of Pins: 88; Contact Plating: Tin; Min Operating Temperature: -40°C; Max Operating Temperature: 125°C; Packaging: Tape and Reel; Number of Elements: 1; Package Quantity: 3000; Turn-On Delay Time: 12.5ns; Number of Circuits: 1; Independent Circuits: 1; Length: 2.2mm; Height: 1mm; Width: 1.35mm; Lead Free: Lead Free; Halogen Free: Halogen Free; ComponentLink1URL: https://datasheet.ciiva.com/8252/nl7sz18-d-8252040.pdf?src-supplier=Avnet; ComponentLink1Description: https://datasheet.ciiva.com/8252/nl7sz18-d-8252040.pdf?src-supplier=Avnet; ComponentLink2URL: https://datasheet.ciiva.com/4807/nl7sz18-d-67200-4807456.pdf?src-supplier=Mouser; ComponentLink2Description: https://datasheet.ciiva.com/4807/nl7sz18-d-67200-4807456.pdf?src-supplier=Mouser; ComponentLink3URL: https://datasheet.ciiva.com/1891/nl7sz18-d-1891705.pdf?src-supplier=Digi-Key; ComponentLink3Description: https://datasheet.ciiva.com/1891/nl7sz18-d-1891705.pdf?src-supplier=Digi-Key; Supplier Part Number 1: NL7SZ18DFT2GOSCT-ND
footprint DCK6_N_rev1 (SOT23, 6-Leads, Body 2x1.3mm, Pitch 0.65mm, Lead Span 2.1mm, IPC Medium Density)
pins: 1 S, 2 GND, 3 A, 4 Y1, 5 VCC, 6 Y0

## NPN RF 12V SOT23
designator Q?, comment BFR 183
NPN RF 12V SOT23; Manufacturer: Infineon; Manufacturer Part Number: BFR183E6327HTSA1; Frequency: 8GHz; Max Power Dissipation: 450mW; Collector Base Voltage (VCBO): 20V; Emitter Base Voltage (VEBO): 2V; Max Collector Current: 65mA; Number of Elements: 1; ComponentLink1URL: http://www.infineon.com/dgdl/bfr183.pdf?folderId=db3a30431400ef68011425b1354605c1&fileId=db3a30431400ef68011426a1b8f80656; ComponentLink1Description: http://www.infineon.com/dgdl/bfr183.pdf?folderId=db3a30431400ef68011425b1354605c1&fileId=db3a30431400ef68011426a1b8f80656; Supplier 1: Digi-Key; Stock 1: 11734; Pricing 1: 1 = 0.40000, 10 = 0.30500, 100 = 0.18980, 500 = 0.12990, 1000 = 0.09992 (USD); RoHS: Yes; Mount: Surface Mount; Case/Package: SOT; Number of Pins: 3; Contact Plating: Tin; Min Operating Temperature: -65°C; Max Operating Temperature: 150°C; Packaging: Tape and Reel; Polarity: NPN; Power Dissipation: 450mW; Collector Emitter Voltage (VCEO): 12V; Collector Emitter Breakdown Voltage: 12V; Transition Frequency: 8GHz; Radiation Hardening: No; Lead Free: Lead Free; REACH SVHC: No SVHC; Halogen Free: Not Halogen Free; ComponentLink2URL: https://datasheet.ciiva.com/26938/getdatasheetpartid-731494-26938705.pdf?src-supplier=Verical; ComponentLink2Description: https://datasheet.ciiva.com/26938/getdatasheetpartid-731494-26938705.pdf?src-supplier=Verical; ComponentLink3URL: https://datasheet.ciiva.com/11208/infineon-bfr183-ds-v01-01-en-11208157.pdf?src-supplier=Avnet; ComponentLink3Description: https://datasheet.ciiva.com/11208/infineon-bfr183-ds-v01-01-en-11208157.pdf?src-supplier=Avnet; Supplier Part Number 1: BFR183E6327HTSA1CT-ND
footprint TO-92A (TO, Flat Index; 3 In-Line, Axial Leads; Body Dia. 4.5mm; Leads 0.51 x 0.48 mm (max))
simulation model 2N3904 (NPN)
signal-integrity model 2N3904
footprint SOT-23 (SOT23, 3-Leads, Body 2.9x1.3mm, Pitch 0.95mm, 0.7 x 0.9)
pins: 1 B, 2 E, 3 C

## NQR010A0X4
designator M?
Manufacturer: GE; Manufacturer Part Number: NQR010A0X4Z; Output Current: 10A; Output Voltage: 6V; Number of Outputs: 1; Efficiency: 94%; Min Input Voltage: 4.5V; Max Input Voltage: 14V; Nominal Input Voltage: 12V; Isolation: Non-Isolated; Max Power Dissipation: 60W; Supplier 1: Digi-Key; Stock 1: 1096; Pricing 1: 1=8.27, 5=8.154, 10=8.036, 25=7.7992, 50=7.5628, 100=7.3265, 250=7.0902, 500=6.6175 (USD); Mount: Through Hole; Case/Package: SIP; Number of Pins: 5; Weight: 0.088185oz; Min Operating Temperature: -40°C; Max Operating Temperature: 85°C; Package Quantity: 315; Packaging: Tray; Voltage - Output 1: 6V; Current - Output 1: 10A; Max Output Current: 10A; Features: UVLO,OCP,OTP; Length: 10.4mm; Height: 0.65inch; Width: 0.33inch; Depth: 8.43mm; Radiation Hardening: No; ComponentLink1URL: https://datasheet.ciiva.com/16982/0900766b80eec532-16982919.pdf; ComponentLink1Description: https://datasheet.ciiva.com/16982/0900766b80eec532-16982919.pdf; ComponentLink2URL: https://datasheet.ciiva.com/15112/getdatasheetpartid-253308-15112201.pdf; ComponentLink2Description: https://datasheet.ciiva.com/15112/getdatasheetpartid-253308-15112201.pdf; ComponentLink3URL: https://datasheet.ciiva.com/2168/nqr010a0x-2168860.pdf; ComponentLink3Description: https://datasheet.ciiva.com/2168/nqr010a0x-2168860.pdf; ComponentLink4URL: https://datasheet.ciiva.com/11838/0900766b80eec532-11838174.pdf; ComponentLink4Description: https://datasheet.ciiva.com/11838/0900766b80eec532-11838174.pdf; Supplier Part Number 1: 555-1161-ND
pins: 1 ~{OFF}, 2 Vin, 3 GND, 4 Vout, 5 Trim

## NUP4301MR6T1G
designator U?
Low Capacitance Diode Array for ESD Protection in Four Data Lines, 6-Pin SC-74, Pb-Free, Tape and Reel; Manufacturer: ON Semiconductor; Capacitance: 3pF; Direction: Bidirectional; Number of Bidirectional Channels: 4; Min Breakdown Voltage: 70V; Power Line Protection: No; Leakage Current: 2.5uA; Forward Current: 715mA; Max Surge Current: 2A; Power Rating: 500W; ComponentLink1Description: Manufacturer URL; ComponentLink2Description: Datasheet; ComponentLink3URL: http://www.onsemi.com/pub_link/Collateral/318F-05.PDF; ComponentLink3Description: Package Specification; ComponentLink1URL: http://www.onsemi.com/; ComponentLink2URL: http://www.onsemi.com/pub/Collateral/NUP4301MR6T1-D.PDF; ComponentLink4URL: https://datasheet.ciiva.com/353/nup4301mr6t1-d-353859.pdf?src-supplier=Avnet; ComponentLink4Description: https://datasheet.ciiva.com/353/nup4301mr6t1-d-353859.pdf?src-supplier=Avnet; ComponentLink5URL: https://datasheet.ciiva.com/353/nup4301mr6t1-d-353859.pdf?src-supplier=Digi-Key; ComponentLink5Description: https://datasheet.ciiva.com/353/nup4301mr6t1-d-353859.pdf?src-supplier=Digi-Key; ComponentLink6URL: https://datasheet.ciiva.com/22637/1708333-22637204.pdf?src-supplier=Element14; ComponentLink6Description: https://datasheet.ciiva.com/22637/1708333-22637204.pdf?src-supplier=Element14; ComponentLink7URL: https://datasheet.ciiva.com/29695/1185422-29695844.pdf?src-supplier=Jameco; ComponentLink7Description: https://datasheet.ciiva.com/29695/1185422-29695844.pdf?src-supplier=Jameco; ComponentLink8URL: https://datasheet.ciiva.com/17030/0900766b80dad825-17030492.pdf?src-supplier=Allied+Electronics; ComponentLink8Description: https://datasheet.ciiva.com/17030/0900766b80dad825-17030492.pdf?src-supplier=Allied+Electronics; ComponentLink9URL: https://datasheet.ciiva.com/26787/nup4301mr6t1g-26787833.pdf?src-supplier=IIIC; ComponentLink9Description: https://datasheet.ciiva.com/26787/nup4301mr6t1g-26787833.pdf?src-supplier=IIIC; ComponentLink10URL: https://datasheet.ciiva.com/353/nup4301mr6t1-d-353860.pdf?src-supplier=Digi-Key; ComponentLink10Description: https://datasheet.ciiva.com/353/nup4301mr6t1-d-353860.pdf?src-supplier=Digi-Key; ComponentLink11URL: https://datasheet.ciiva.com/353/nup4301mr6t1-d-353861.pdf?src-supplier=Digi-Key; ComponentLink11Description: https://datasheet.ciiva.com/353/nup4301mr6t1-d-353861.pdf?src-supplier=Digi-Key; ComponentLink12URL: https://datasheet.ciiva.com/8292/nup4301mr6t1-d-8292389.pdf?src-supplier=Avnet; ComponentLink12Description: https://datasheet.ciiva.com/8292/nup4301mr6t1-d-8292389.pdf?src-supplier=Avnet; ComponentLink13URL: https://datasheet.ciiva.com/15144/getdatasheetpartid-82731-15144533.pdf?src-supplier=Verical; ComponentLink13Description: https://datasheet.ciiva.com/15144/getdatasheetpartid-82731-15144533.pdf?src-supplier=Verical; ComponentLink14URL: https://datasheet.ciiva.com/7973/1916454-7973847.pdf?src-supplier=Element14; ComponentLink14Description: https://datasheet.ciiva.com/7973/1916454-7973847.pdf?src-supplier=Element14; ComponentLink15URL: https://datasheet.ciiva.com/16396/nup4301mr6t1-d-16396122.pdf?src-supplier=Future+Electronics; ComponentLink15Description: https://datasheet.ciiva.com/16396/nup4301mr6t1-d-16396122.pdf?src-supplier=Future+Electronics; Supplier 1: Digi-Key; Manufacturer Part Number: NUP4301MR6T1G; Stock 1: 26876; Pricing 1: 1 = 0.50000, 10 = 0.37400, 100 = 0.23310, 500 = 0.15952, 1000 = 0.12271 (USD); RoHS: Yes; Case/Package: SC; Number of Pins: 6; Contact Plating: Tin; Min Operating Temperature: -40°C; Max Operating Temperature: 85°C; Package Quantity: 1; Packaging: Tape and Reel; Working Voltage: 70V; Number of Lines: 4; Peak Reverse Current: 2.5uA; Number of Channels: 4; Polarity: Bidirectional; Reverse Standoff Voltage: 70V; Max Breakdown Voltage: 70V; Max Repetitive Reverse Voltage (Vrrm): 70V; Peak Non-Repetitive Surge Current: 2A; Voltage Rating (DC): 70V; Breakdown Voltage: 70V; Reverse Voltage: 70V; Length: 3mm; Height: 0.94mm; Depth: 1.5mm; Width: 1.5mm; Radiation Hardening: No; Lead Free: Lead Free; Halogen Free: Halogen Free; REACH SVHC: No SVHC; Supplier Part Number 1: NUP4301MR6T1GOSCT-ND
footprint ONSC-SC-74-6-318F-05_V
pins: 1 A, 2 G (power), 3 B, 4 C, 5 V+ (power), 6 D

## Penetrator Disk
designator P-DISK, comment Penetrator
pins: 1, 1, 2, 2, 3, 3 10, 4, 4, 5, 5, 6, 6, 7, 7, 8, 8

## PL130-09
designator U?
High Speed Translator Differential Driver,; Manufacturer: Microchip Technology; Manufacturer Part Number: PL130-09SI; Number of Circuits: 1; Ratio - Input:Output: 1:1; Differential - Input:Output: No/Yes; Input: CMOS, LVDS, PECL, Sine Wave, TTL; Output: LVDS; Frequency - Max: 1MHz; Voltage - Supply: 2.25 V ~ 3.63 V; Supplier 1: Digi-Key; RoHS: RoHS Compliant; Category: Integrated Circuits (ICs); Stock 1: 0; Pricing 1: 200=3.69 (USD); Packaging: Tube; Type: Buffer/Driver; Operating Temperature: -40°C ~ 85°C; Mounting Type: Surface Mount; Package / Case: 8-SOIC (0.154", 3.90mm Width); Supplier Device Package: 8-SOP; ComponentLink1URL: http://www.micrel.com/_PDF/clk/PL130-09.pdf; ComponentLink1Description: http://www.micrel.com/_PDF/clk/PL130-09.pdf; Supplier Part Number 1: PL130-09SI-ND
footprint LT-S8-8_N (SOIC, 8-Leads, Body 4.9x3.9mm, Pitch 1.27mm, IPC Medium Density)
pins: 1 GND (power), 2 SIG IN (in), 3 GND (power), 4 OUT+ (out), 5 VDD (power), 6 OUT- (out), 7 GND (power), 8 VDD (power)

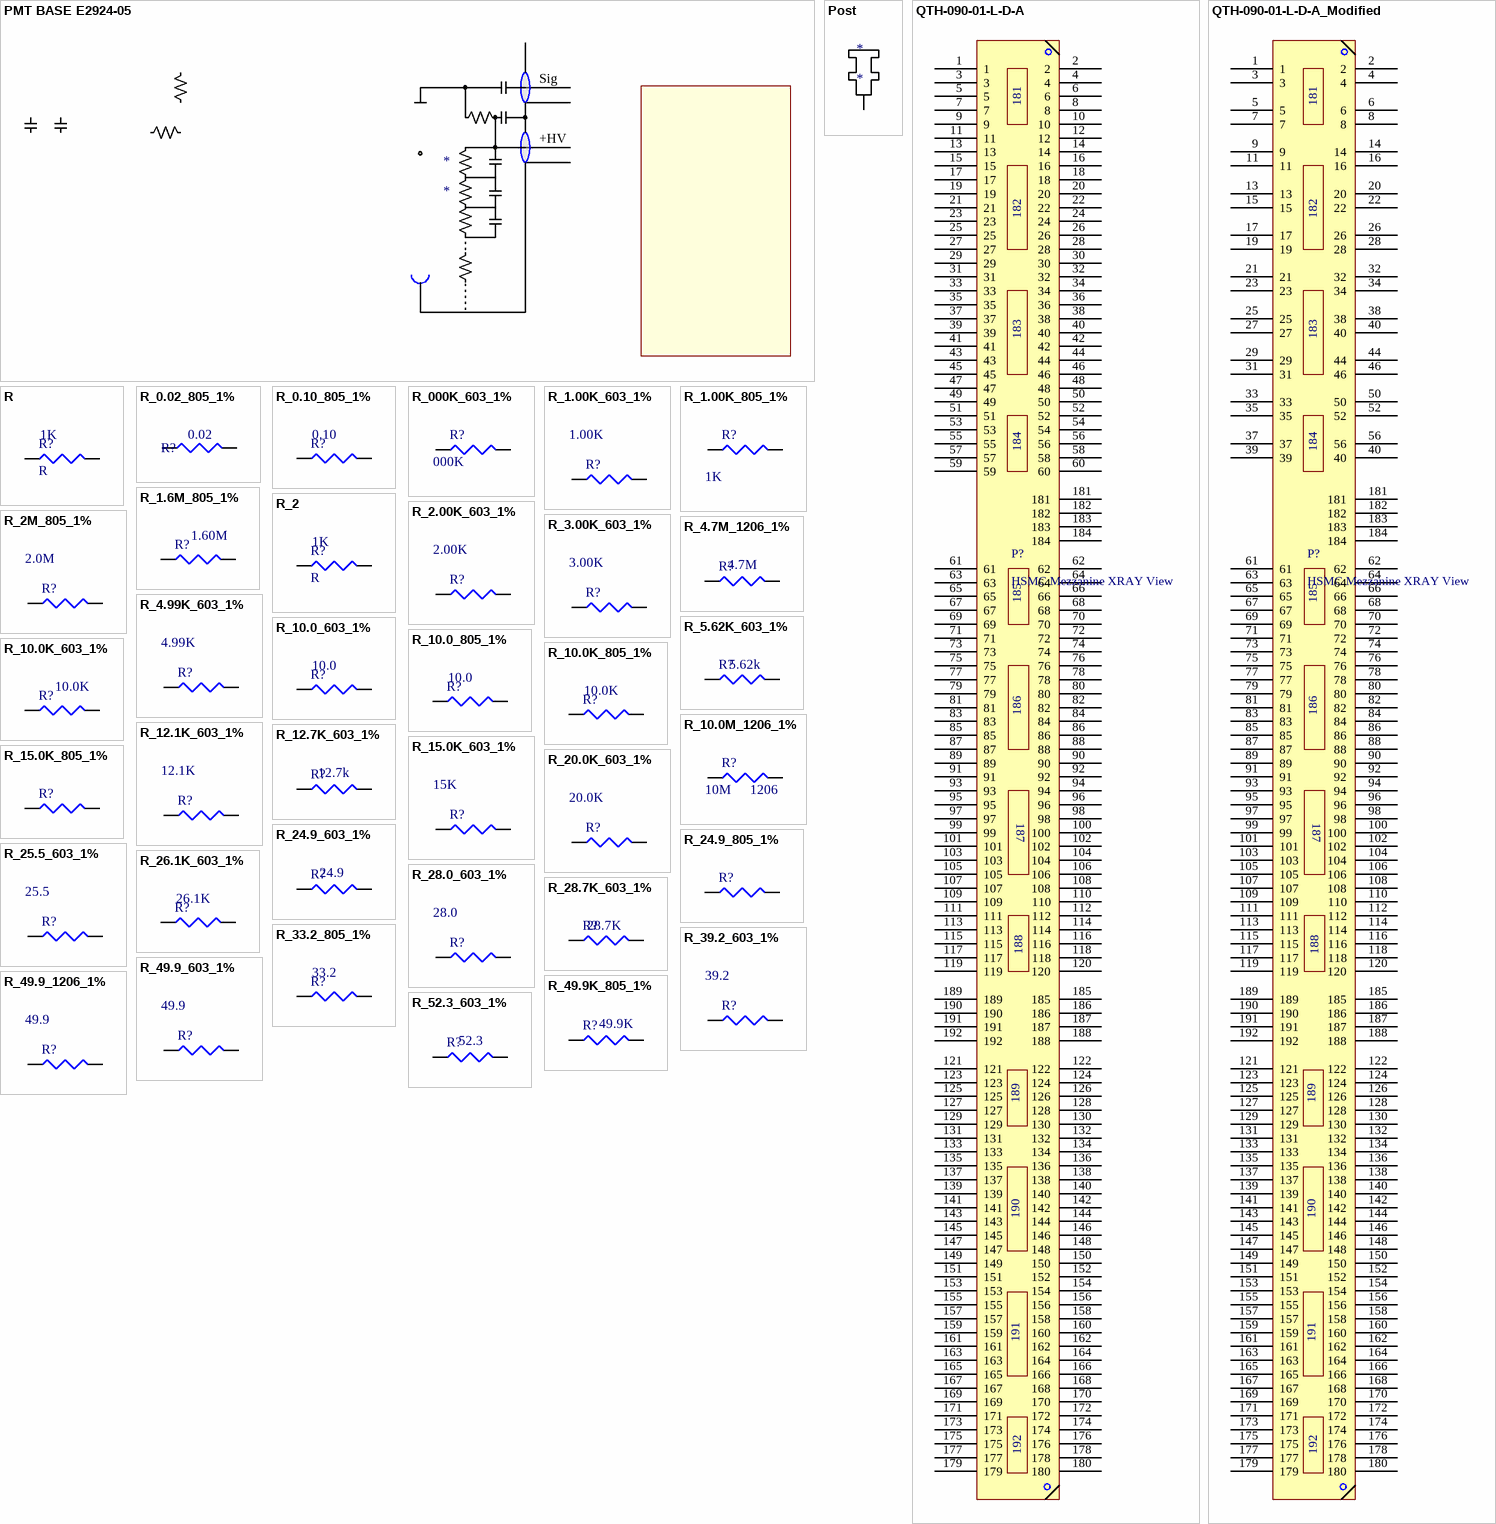
[diagram p19: symbols PMT BASE E2924-05 to R_52.3_603_1%]

## PMT BASE E2924-05
designator *
pins: +HV, ?1 HV Return, ?2 SIG Return, Sig SIG

## Post
designator *
footprint Post Hole
pins: 1 Post